# EAGLE library part TEENSY-LC (library Teensy_3_and_LC_Series_Boards_v1.1)
Teensy with only temperature controller pin
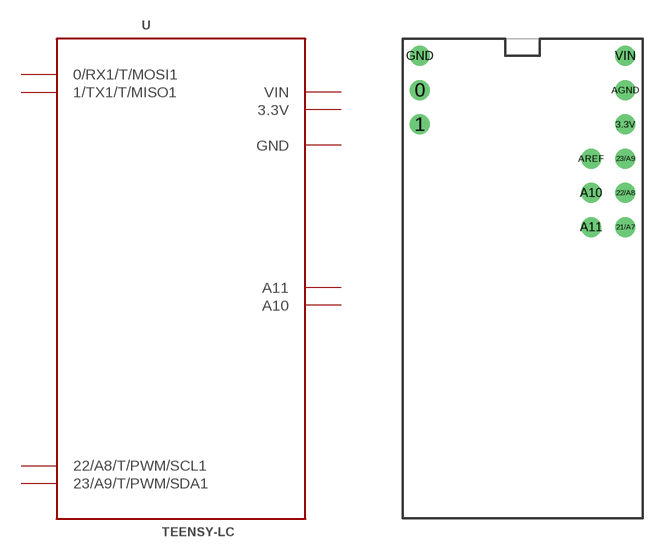
[diagram p14: symbol with the pads of TEENSY-TC; footprint TEENSY-TC]

Designator prefix -

## TEENSY-LC  [TEENSY-TC]
0  0/RX1/T/MOSI1
1  1/TX1/T/MISO1
3.3V  3.3V  pwr
22/A8  22/A8/T/PWM/SCL1
23/A9  23/A9/T/PWM/SDA1
A10  A10
A11  A11
AGND  GND  pwr
VIN  VIN  pwr

## Footprint TEENSY-TC (pad centres in mm)
drill 0.965: 0 -7.62,13.97; 1 -7.62,11.43; 3.3V 7.62,11.43; 21/A7 7.62,3.81; 22/A8 7.62,6.35; 23/A9 7.62,8.89; A10 5.08,6.35; A11 5.08,3.81; AGND 7.62,13.97; AREF 5.08,8.89; GND -7.62,16.51; VIN 7.62,16.51